# Altium schematic symbol library AD8567_LFCSP.Schlib: 1 symbol
Pins are listed as number, name and electrical type; pins without a type are passive.

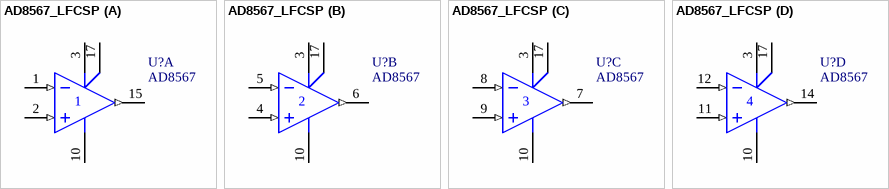
[diagram p0: symbol AD8567_LFCSP]

## AD8567_LFCSP
designator U?, comment AD8567
Quad Rail-to-Rail I/O Operational Amplifier
pins on every part: 3 V+ (power), 10 V- (power)
part A pins: 1 IN- (in), 2 IN+ (in), 15 OUT (out), 17 V+ (power)
part B pins: 4 IN+ (in), 5 IN- (in), 6 OUT (out), 17 V+ (power)
part C pins: 7 OUT (out), 8 IN- (in), 9 IN+ (in), 17 V+ (power)
part D pins: 11 IN+ (in), 12 IN- (in), 13 NC hidden, 14 OUT (out), 16 NC hidden, 17 V+ (power)